# EAGLE library part GD32F150K8U6 (library GD32)
GD32 ARM Cortex-M3 Microcontroller Maximum Speed up to 72 MHz Flash memory 64K RAM 8K USB Datasheet <http://www.gd32mcu.com/data/documents/shujushouce/GD32F150xx_Datasheet_Rev3.1.pdf>
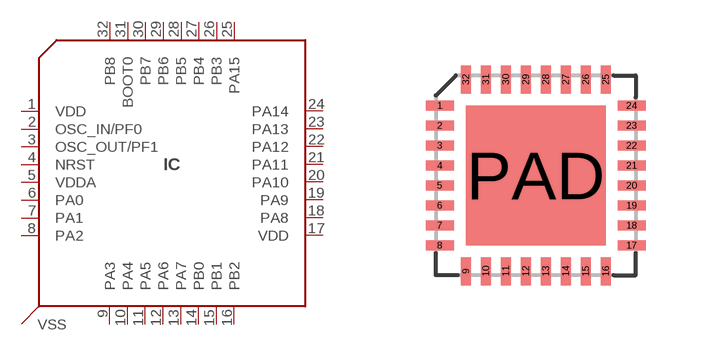
[diagram p1: symbol with the pads of QFN-32(5X5); footprint QFN-32(5X5)]

Designator prefix IC

## GD32F150K8U6 (LCSC#: C94558; MANF: GigaDevice Semicon Beijing; MANF#: GD32F150K8U6)  [QFN-32(5X5)]
1  VDD
2  OSC_IN/PF0
3  OSC_OUT/PF1
4  NRST
5  VDDA
6  PA0
7  PA1
8  PA2
9  PA3
10  PA4
11  PA5
12  PA6
13  PA7
14  PB0
15  PB1
16  PB2
17  VDD
18  PA8
19  PA9
20  PA10
21  PA11
22  PA12
23  PA13
24  PA14
25  PA15
26  PB3
27  PB4
28  PB5
29  PB6
30  PB7
31  BOOT0
32  PB8
PAD  VSS

## Footprint QFN-32(5X5) (pad centres in mm)
Drawing <https://www.analog.com/media/en/package-pcb-resources/package/pkg_pdf/ltc-legacy-qfn/QFN_32_05-08-1693.pdf>
smd 0.7 x 0.25: 1 -2.4,1.75; 2 -2.4,1.25; 3 -2.4,0.75; 4 -2.4,0.25; 5 -2.4,-0.25; 6 -2.4,-0.75; 7 -2.4,-1.25; 8 -2.4,-1.75; 17 2.4,-1.75; 18 2.4,-1.25; 19 2.4,-0.75; 20 2.4,-0.25; 21 2.4,0.25; 22 2.4,0.75; 23 2.4,1.25; 24 2.4,1.75
smd 0.25 x 0.7: 9 -1.75,-2.4; 10 -1.25,-2.4; 11 -0.75,-2.4; 12 -0.25,-2.4; 13 0.25,-2.4; 14 0.75,-2.4; 15 1.25,-2.4; 16 1.75,-2.4; 25 1.75,2.4; 26 1.25,2.4; 27 0.75,2.4; 28 0.25,2.4; 29 -0.25,2.4; 30 -0.75,2.4; 31 -1.25,2.4; 32 -1.75,2.4
smd 3.5 x 3.5: PAD 0,0